# EAGLE library part CON-MOLEX_22-?-10 (library Piezoverstärker_v3.0)
CONNECTOR wire to board 2.54 mm (.1 inch) pitch header
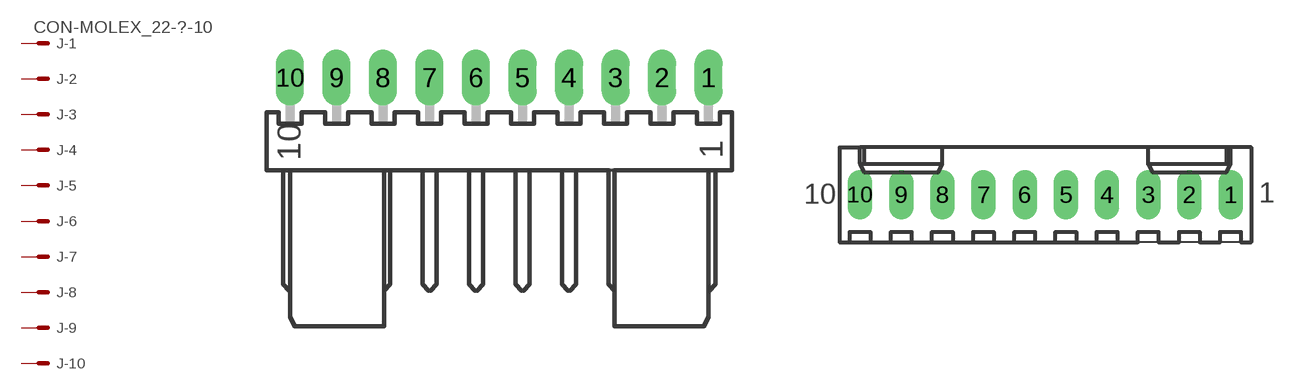
[diagram p5: symbol with the pads of CON-MOLEX_7395-10; footprints CON-MOLEX_7395-10, CON-MOLEX_6410-10]

Designator prefix J; gates -1=CON-MOLEX_MV -2=CON-MOLEX_M -3=CON-MOLEX_M -4=CON-MOLEX_M -5=CON-MOLEX_M -6=CON-MOLEX_M -7=CON-MOLEX_M -8=CON-MOLEX_M -9=CON-MOLEX_M -10=CON-MOLEX_M

## CON-MOLEX_22-05-7108-10 (OC_FARNELL: unknown; OC_NEWARK: unknown)  [CON-MOLEX_7395-10]
1  -1:S  pas
2  -2:S  pas
3  -3:S  pas
4  -4:S  pas
5  -5:S  pas
6  -6:S  pas
7  -7:S  pas
8  -8:S  pas
9  -9:S  pas
10  -10:S  pas

## CON-MOLEX_22-27-2101-10 (OC_FARNELL: unknown; OC_NEWARK: unknown)  [CON-MOLEX_6410-10]
Pads as for CON-MOLEX_7395-10

## Footprint CON-MOLEX_7395-10 (pad centres in mm)
MOLEX 2.54mm KK RA CONNECTOR Fixed Orientation
drill 1.016 long: 1 11.43,0; 2 8.89,0; 3 6.35,0; 4 3.81,0; 5 1.27,0; 6 -1.27,0; 7 -3.81,0; 8 -6.35,0; 9 -8.89,0; 10 -11.43,0

## Footprint CON-MOLEX_6410-10 (pad centres in mm)
MOLEX 2.54mm KK CONNECTOR
drill 1.016 long: 1 11.43,0; 2 8.89,0; 3 6.35,0; 4 3.81,0; 5 1.27,0; 6 -1.27,0; 7 -3.81,0; 8 -6.35,0; 9 -8.89,0; 10 -11.43,0